# EAGLE library part NJM2360 (library Fugu_LSI)
DC-DC Converter Control IC
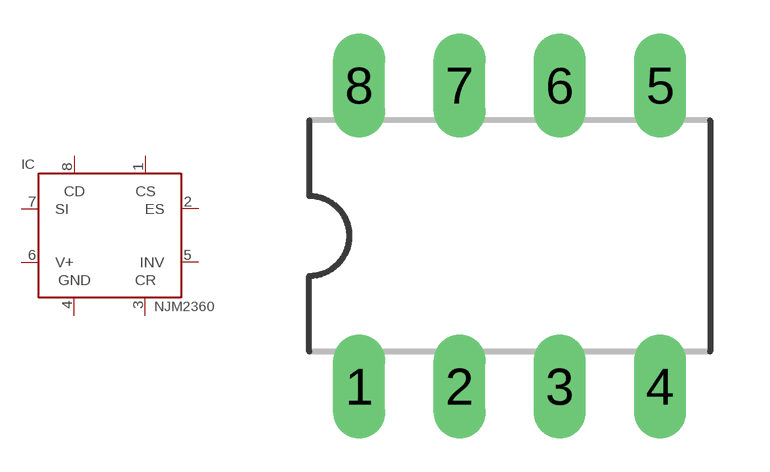
[diagram p22: symbol with the pads of DIL08; footprint DIL08]

Designator prefix IC

## NJM2360  [DIL08]
1  CS
2  ES
3  CR
4  GND
5  INV
6  V+
7  SI
8  CD

## Footprint DIL08 (pad centres in mm)
Dual In Line Package
drill 0.813 long: 1 -3.81,-3.81; 2 -1.27,-3.81; 3 1.27,-3.81; 4 3.81,-3.81; 5 3.81,3.81; 6 1.27,3.81; 7 -1.27,3.81; 8 -3.81,3.81